# EAGLE library part ESP12-HUZZAH (library trainlib)
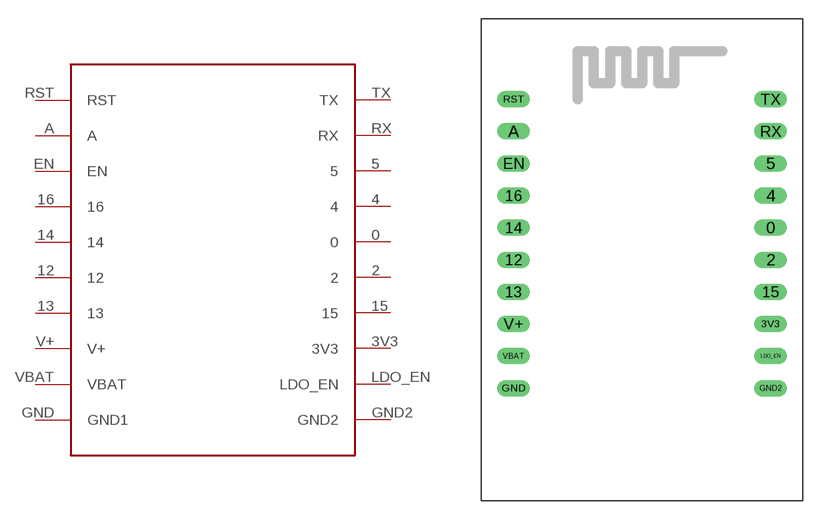
[diagram p9: symbol with the pads of ESP12-HUZZAH; footprint ESP12-HUZZAH]

Designator prefix -

## ESP12-HUZZAH  [ESP12-HUZZAH]
0  0
2  2
3V3  3V3  pwr
4  4
5  5
12  12
13  13
14  14
15  15
16  16
A  A
EN  EN
GND  GND1  pwr
GND2  GND2  pwr
LDO_EN  LDO_EN
RST  RST
RX  RX
TX  TX
V+  V+  pwr
VBAT  VBAT  pwr

## Footprint ESP12-HUZZAH (pad centres in mm)
drill 0.8 long: 0 10.16,2.54; 2 10.16,0; 3V3 10.16,-5.08; 4 10.16,5.08; 5 10.16,7.62; 12 -10.16,0; 13 -10.16,-2.54; 14 -10.16,2.54; 15 10.16,-2.54; 16 -10.16,5.08; A -10.16,10.16; EN -10.16,7.62; GND -10.16,-10.16; GND2 10.16,-10.16; LDO_EN 10.16,-7.62; RST -10.16,12.7; RX 10.16,10.16; TX 10.16,12.7; V+ -10.16,-5.08; VBAT -10.16,-7.62